# Altium footprint library BB.001.00.00.PcbLib: 93 footprints (part 1 of 6)
Each footprint in its own frame and in the unit in brackets; x right, y up, seen from the top. Pads: shape width x height; smd on the part's side, far side on the other; paste and mask are expansions set on the pad; w line width, h text height; cw(c..) or ccw(c..) is an arc to the next point about the centre after c.
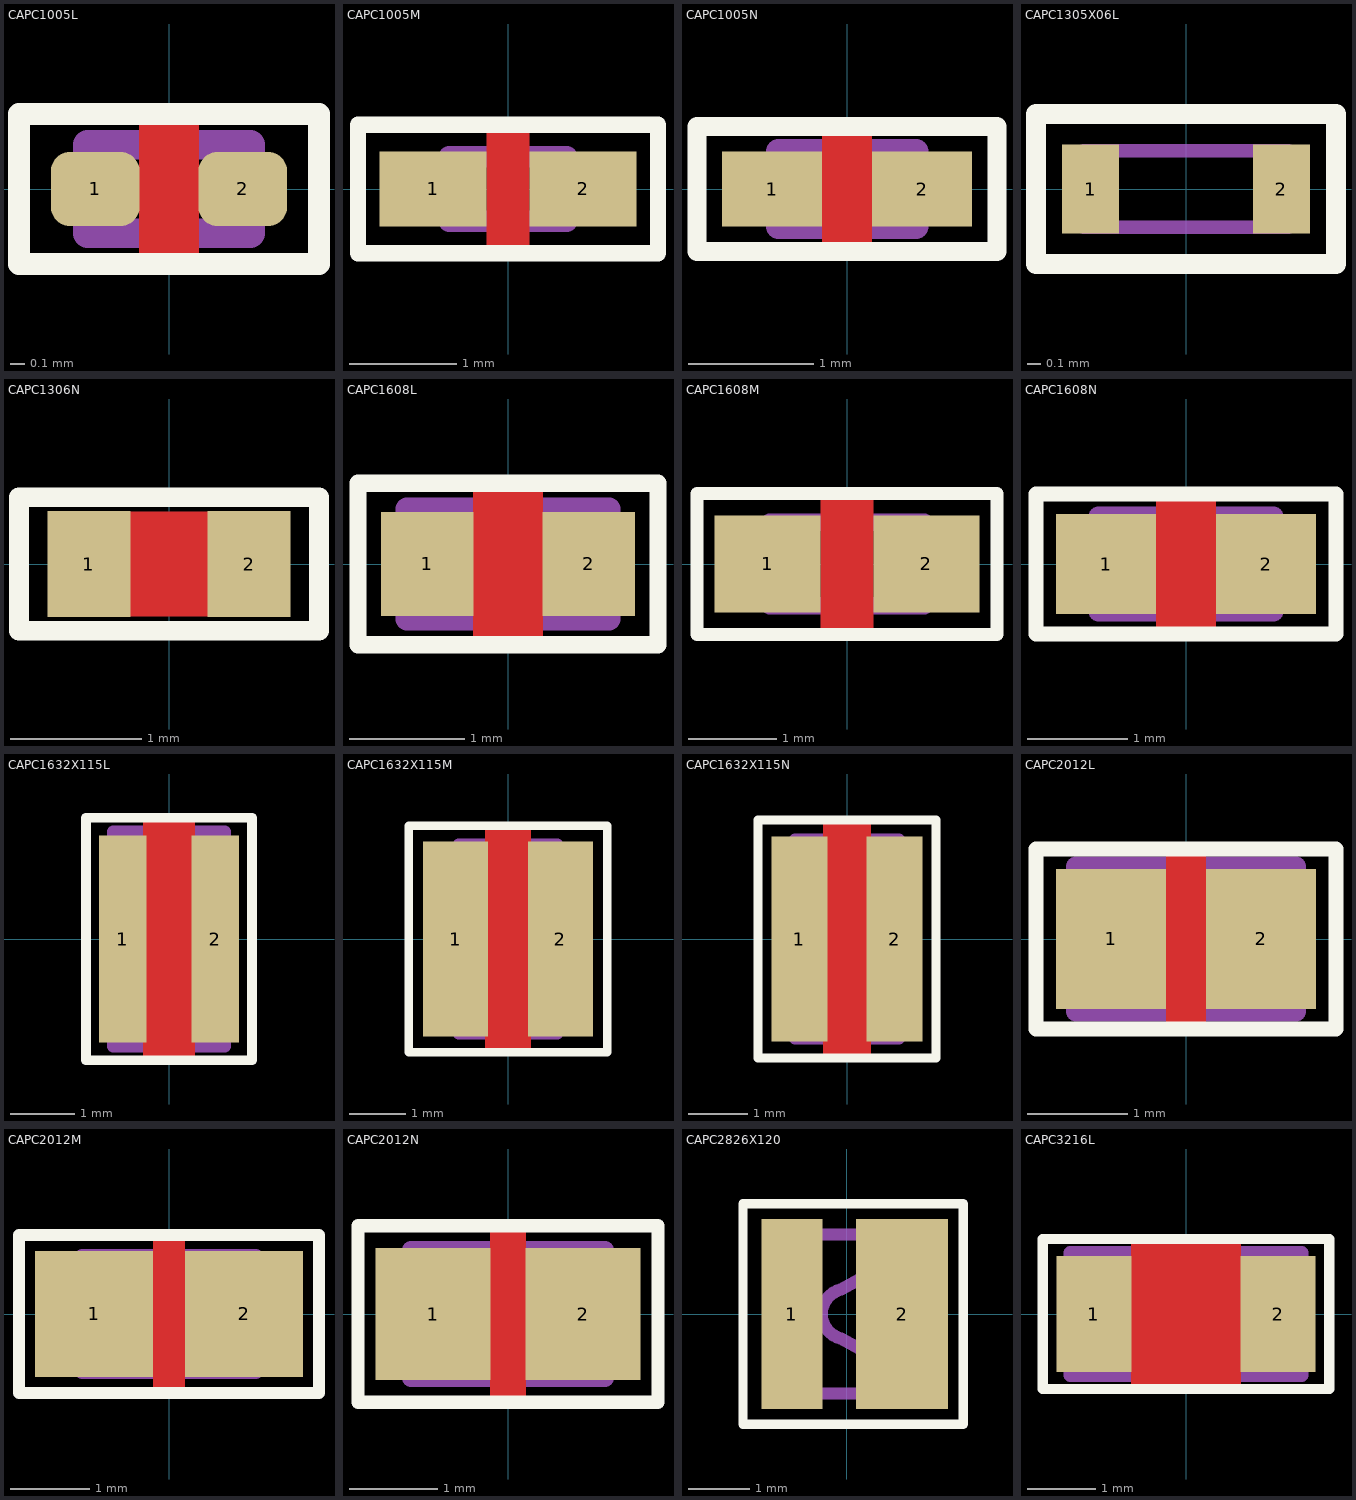
[diagram p0: the footprints below, top view; thin cyan lines are the x and y axes]

## CAPC1005L [mm] "Chip Capacitor, Body 1.0x0.5mm, IPC High Density"
height 0.6
pads (2):
  rrect50% 0.6x0.5 smd: 1(-0.5,0) 2(0.5,0)
Top Layer:
  pour cut-out: -0.2,0.5 -0.2,-0.5 0.2,-0.5 0.2,0.5
Top Overlay:
  lines w0.15: -1.016,-0.508 -1.016,0.508 1.016,0.508 1.016,-0.508 -1.016,-0.508
TopAsy:
  lines w0.2: -0.55,-0.3 0.55,-0.3 0.55,0.3 -0.55,0.3 -0.55,-0.3
3D body: height 0.6, standoff 0, extent -0.55,-0.3 0.55,0.3

## CAPC1005M [mm] "Chip Capacitor, Body 1.0x0.5mm, IPC Low Density"
height 0.6
pads (2):
  rect 1x0.7 smd: 1(-0.7,0) 2(0.7,0)
Top Layer:
  pour cut-out: -0.2,0.6 -0.2,-0.6 0.2,-0.6 0.2,0.6
Top Overlay:
  lines w0.15: -1.4,-0.6 1.4,-0.6 1.4,0.6 -1.4,0.6 -1.4,-0.6
TopAsy:
  lines w0.2: -0.55,-0.3 0.55,-0.3 0.55,0.3 -0.55,0.3 -0.55,-0.3
3D body: height 0.6, standoff 0, extent -0.55,-0.3 0.55,0.3

## CAPC1005N [mm] "Chip Capacitor, Body 1.0x0.5mm, IPC Medium Density"
height 0.6
pads (2):
  rect 0.8x0.6 smd: 1(-0.6,0) 2(0.6,0)
Top Layer:
  pour cut-out: -0.2,0.5 -0.2,-0.5 0.2,-0.5 0.2,0.5
Top Overlay:
  lines w0.15: -1.2,-0.5 -1.2,0.5 1.2,0.5 1.2,-0.5 -1.2,-0.5
TopAsy:
  lines w0.2: -0.55,-0.3 -0.55,0.3 0.55,0.3 0.55,-0.3 -0.55,-0.3
3D body: height 0.6, standoff 0, extent -0.55,-0.3 0.55,0.3

## CAPC1305X06L [mm] "Chip Capacitor, 2-Leads, Body 1,30x0,51mm, IPC High Density"
height 0.56
pads (2):
  rect 0.42x0.65 smd: 1(-0.7,0) 2(0.7,0)
Top Overlay:
  lines w0.15: -1.1,-0.55 1.1,-0.55 1.1,0.55 -1.1,0.55 -1.1,-0.55
TopAsy:
  lines w0.1: -0.75,-0.28 0.75,-0.28 0.75,0.28 -0.75,0.28 -0.75,-0.28
3D body "CAPC1305X06L.step": height 0.56, standoff 0, extent -0.75,-0.28 0.75,0.28

## CAPC1306N [mm] "Chip Capacitor, 2-Leads, Body 1,27x0,64mm, IPC Medium Density"
height 0.56
pads (2):
  rect 0.63x0.81 smd: 1(-0.61,0) 2(0.61,0)
Top Layer:
  pour cut-out: -0.3,0.4 0.3,0.4 0.3,-0.4 -0.3,-0.4
Top Overlay:
  lines w0.15: -1.143,-0.508 1.143,-0.508 1.143,0.508 -1.143,0.508 -1.143,-0.508
TopAsy:
  lines w0.2: -0.75,-0.28 0.75,-0.28 0.75,0.28 -0.75,0.28 -0.75,-0.28
3D body: height 0.56, standoff 0, extent -0.75,-0.28 0.75,0.28

## CAPC1608L [mm] "Chip Capacitor, Body 1.6x0.8mm, IPC High Density"
height 0.85
pads (2):
  rect 0.8x0.9 smd: 1(-0.7,0) 2(0.7,0)
Top Layer:
  pour cut-out: -0.3,0.7 -0.3,-0.7 0.3,-0.7 0.3,0.7
Top Overlay:
  lines w0.15: -1.3,-0.7 -1.3,0.7 1.3,0.7 1.3,-0.7 -1.3,-0.7
TopAsy:
  lines w0.2: -0.875,-0.475 0.875,-0.475 0.875,0.475 -0.875,0.475 -0.875,-0.475
3D body: height 0.85, standoff 0, extent -0.875,-0.475 0.875,0.475

## CAPC1608M [mm] "Chip Capacitor, Body 1.6x0.8mm, IPC Low Density"
height 0.85
pads (2):
  rect 1.2x1.1 smd: 1(-0.9,0) 2(0.9,0)
Top Layer:
  pour cut-out: -0.3,0.8 -0.3,-0.8 0.3,-0.8 0.3,0.8
Top Overlay:
  lines w0.15: -1.7,-0.8 1.7,-0.8 1.7,0.8 -1.7,0.8 -1.7,-0.8
TopAsy:
  lines w0.2: -0.875,-0.475 0.875,-0.475 0.875,0.475 -0.875,0.475 -0.875,-0.475
3D body: height 0.85, standoff 0, extent -0.875,-0.475 0.875,0.475

## CAPC1608N [mm] "Chip Capacitor, Body 1.6x0.8mm, IPC Medium Density"
height 0.85
pads (2):
  rect 1x1 smd: 1(-0.8,0) 2(0.8,0)
Top Layer:
  pour cut-out: -0.3,0.7 -0.3,-0.7 0.3,-0.7 0.3,0.7
Top Overlay:
  lines w0.15: -1.5,-0.7 -1.5,0.7 1.5,0.7 1.5,-0.7 -1.5,-0.7
TopAsy:
  lines w0.2: -0.875,-0.475 0.875,-0.475 0.875,0.475 -0.875,0.475 -0.875,-0.475
3D body: height 0.85, standoff 0, extent -0.875,-0.475 0.875,0.475

## CAPC1632X115L [mm] "Chip Capacitor, 2-Leads, Body 1,6x3,2mm, IPC High Density"
height 1.15
pads (2):
  rect 0.75x3.25 smd: 1(-0.725,0) 2(0.725,0)
Top Layer:
  pour cut-out: -0.4,1.9 -0.4,-1.9 0.4,-1.9 0.4,1.9
Top Overlay:
  lines w0.15: -1.3,-1.9 1.3,-1.9 1.3,1.9 -1.3,1.9 -1.3,-1.9
TopAsy:
  lines w0.2: -0.875,-1.675 -0.875,1.675 0.875,1.675 0.875,-1.675 -0.875,-1.675
3D body: height 1.15, standoff 0, extent -0.875,-1.675 0.875,1.675

## CAPC1632X115M [mm] "Chip Capacitor, 2-Leads, Body 1,6x3,2mm, IPC Low Density"
height 1.15
pads (2):
  rect 1.15x3.45 smd: 1(-0.925,0) 2(0.925,0)
Top Layer:
  pour cut-out: -0.4,2 -0.4,-2 0.4,-2 0.4,2
Top Overlay:
  lines w0.15: -1.75,-2 1.75,-2 1.75,2 -1.75,2 -1.75,-2
TopAsy:
  lines w0.2: -0.875,-1.675 0.875,-1.675 0.875,1.675 -0.875,1.675 -0.875,-1.675
3D body: height 1.15, standoff 0, extent -0.875,-1.675 0.875,1.675

## CAPC1632X115N [mm] "Chip Capacitor, 2-Leads, Body 1,6x3,2mm, IPC Medium Density"
height 1.15
pads (2):
  rect 0.95x3.45 smd: 1(-0.8,0) 2(0.8,0)
Top Layer:
  pour cut-out: -0.4,2 -0.4,-2 0.4,-2 0.4,2
Top Overlay:
  lines w0.15: -1.5,-2 1.5,-2 1.5,2 -1.5,2 -1.5,-2
TopAsy:
  lines w0.2: -0.875,-1.675 0.875,-1.675 0.875,1.675 -0.875,1.675 -0.875,-1.675
3D body: height 1.15, standoff 0, extent -0.875,-1.675 0.875,1.675

## CAPC2012L [mm] "Chip Capacitor, Body 2.0x1.3mm, IPC High Density"
height 1.1
pads (2):
  rect 1.1x1.4 smd: 1(-0.75,0) 2(0.75,0)
Top Layer:
  pour cut-out: -0.2,0.9 -0.2,-0.9 0.2,-0.9 0.2,0.9
Top Overlay:
  lines w0.15: -1.5,-0.9 -1.5,0.9 1.5,0.9 1.5,-0.9 -1.5,-0.9
TopAsy:
  lines w0.2: -1.1,-0.725 -1.1,0.725 1.1,0.725 1.1,-0.725 -1.1,-0.725
3D body: height 1.1, standoff 0, extent -1.1,-0.725 1.1,0.725

## CAPC2012M [mm] "Chip Capacitor, Body 2.0x1.3mm, IPC Low Density"
height 1.1
pads (2):
  rect 1.5x1.6 smd: 1(-0.95,0) 2(0.95,0)
Top Layer:
  pour cut-out: -0.2,1 -0.2,-1 0.2,-1 0.2,1
Top Overlay:
  lines w0.15: -1.9,-1 1.9,-1 1.9,1 -1.9,1 -1.9,-1
TopAsy:
  lines w0.2: -1.1,-0.725 1.1,-0.725 1.1,0.725 -1.1,0.725 -1.1,-0.725
3D body: height 1.1, standoff 0, extent -1.1,-0.725 1.1,0.725

## CAPC2012N [mm] "Chip Capacitor, Body 2.0x1.3mm, IPC Medium Density"
height 1.1
pads (2):
  rect 1.3x1.5 smd: 1(-0.85,0) 2(0.85,0)
Top Layer:
  pour cut-out: -0.2,1 -0.2,-1 0.2,-1 0.2,1
Top Overlay:
  lines w0.15: -1.7,-1 -1.7,1 1.7,1 1.7,-1 -1.7,-1
TopAsy:
  lines w0.2: -1.1,-0.725 1.1,-0.725 1.1,0.725 -1.1,0.725 -1.1,-0.725
3D body: height 1.1, standoff 0, extent -1.1,-0.725 1.1,0.725

## CAPC2826X120 [mm]
height 1.2
pads (2):
  rect 1x3.1 smd: 1(-0.9,0)
  rect 1.5x3.1 smd: 2(0.9,0)
Top Overlay:
  lines w0.15: -1.7,-1.8 1.9,-1.8 1.9,1.8 -1.7,1.8 -1.7,-1.8
TopAsy:
  lines w0.2: -1.275,-0.975 cw(c-1.275,-1.3) -0.95,-1.3 ; -1.275,-0.95 -1.275,0.975 ccw(c-1.275,1.3) -0.95,1.3 1.525,1.3 ; -0.925,-1.3 1.525,-1.3 ; 1.525,-1.3 1.525,1.3 ; 1.525,-1.3 -0.1,-0.4 cw(c0,0) -0.1,0.4 1.525,1.3
3D body "Конденсатор подстроечный КТ4-27 ОЖО.460.155 ТУ.STEP": height 1.41, standoff 0.01, extent -1.3,-1.3 1.5,1.3

## CAPC3216L [mm] "Chip Capacitor, Body 3.2x1.6mm, IPC High Density"
height 1.35
pads (2):
  rect 1.1x1.7 smd: 1(-1.35,0) 2(1.35,0)
Top Layer:
  pour cut-out: -0.8,1.1 -0.8,-1.1 0.8,-1.1 0.8,1.1
Top Overlay:
  lines w0.15: -2.1,-1.1 -2.1,1.1 2.1,1.1 2.1,-1.1 -2.1,-1.1
TopAsy:
  lines w0.2: -1.7,-0.9 1.7,-0.9 1.7,0.9 -1.7,0.9 -1.7,-0.9
3D body: height 1.35, standoff 0, extent -1.7,-0.9 1.7,0.9